# EAGLE library part PEC11R-4215F-S0024 (library EW_switches)
Incremental Encoder, 12 Mm, Contact Rating 10 Ma - 5 Vdc
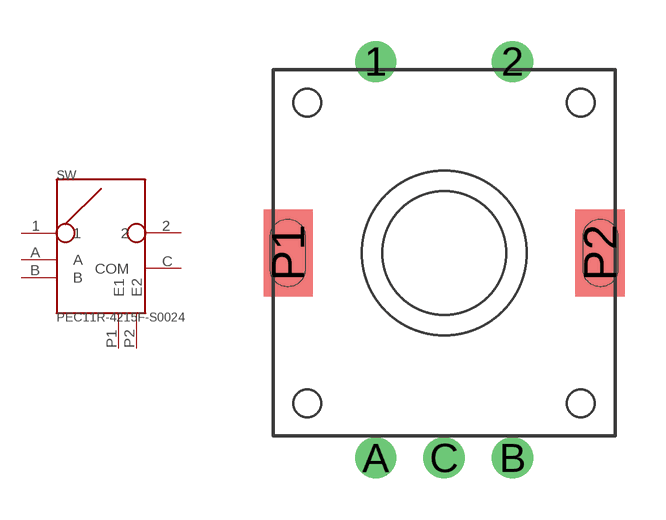
[diagram p0: symbol with the pads of SW_PEC11R-4215F-S0024; footprint SW_PEC11R-4215F-S0024]

Designator prefix SW

## PEC11R-4215F-S0024 (AVAILABILITY: Unavailable; DESCRIPTION: Incremental Encoder, 12 Mm, Contact Rating 10 Ma - 5 Vdc; MF: Bourns; MP: PEC11R-4215F-S0024; PACKAGE: None; PRICE: None)  [SW_PEC11R-4215F-S0024]
1  1  pas
2  2  pas
A  A  pas
B  B  pas
C  COM  pas
P1  E1  pwr
P2  E2  pwr

## Footprint SW_PEC11R-4215F-S0024 (pad centres in mm)
Digital encoder type PEC11R
drill 1: 1 -2.5,7; 2 2.5,7; A -2.5,-7.5; B 2.5,-7.5; C 0,-7.5
smd 1.8 x 3.175: P1 -5.7,0; P2 5.7,0